# Altium schematic symbol library CL10A475MA8NQNC.SchLib: 1 symbol
Pins are listed as number, name and electrical type; pins without a type are passive.

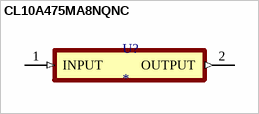
[diagram p0: symbol CL10A475MA8NQNC]

## CL10A475MA8NQNC
designator U?
MF: {'manufacturer': u'Samsung Electro-Mechanics'}; MP: CL10A475MA8NQNC; Package: None; Price: None; Value: *; Availability: Unavailable
footprint ANTC1608X90N
pins: 1 INPUT (in), 2 OUTPUT (out)